# EAGLE library part KEMET_EC2-3NU (library Kemet - EC2-3NU)
Miniature Signal Relay
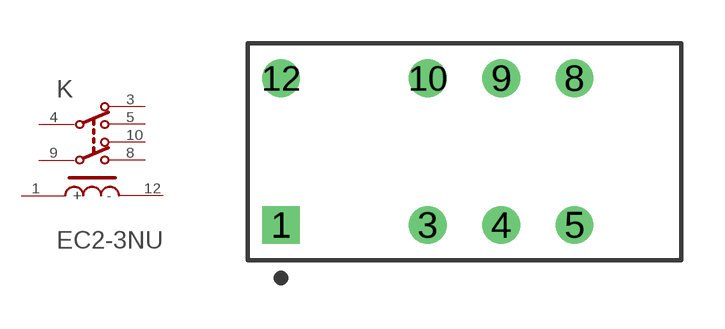
[diagram p0: symbol with the pads of KEMET_EC2-3NU_0; footprint KEMET_EC2-3NU_0]

Designator prefix K

## KEMET_EC2-3NUKEMET_EC2-3NU_0_0 (CENTROID_NOT_SPECIFIED: No; COIL_CURRENT: 28mA; COIL_VOLTAGE: 5VDC; CONTACT_FORM: DPDT (2 Form C); DATASHEET: http://www.kemet.com/docfinder?Partnumber=EC2-5NU; DIGIKEY_DESCRIPTION: RELAY GEN PURPOSE DPDT 2A 5V; DIGIKEY_PART_NUMBER: 399-11052-5-ND; IMPORTED_FROM: octopart; LEAD_FREE: yes; MF: Kemet; MOUSER_PART_NUMBER: 80-EC2-5NU; MPN: EC2-5NU; PACKAGE: RLY_PTH_14MM8_7MM3; PREFIX: K; ROHS: yes; TEMPERATURE_RANGE_HIGH: +85°C; TEMPERATURE_RANGE_LOW: -40°C; VOLTAGE: 250VAC)  [KEMET_EC2-3NU_0]
1  +
3  3
4  4
5  5
8  8
9  9
10  10
12  -

## Footprint KEMET_EC2-3NU_0 (pad centres in mm)
Miniature Signal Relay
drill 0.8 pad 1.3 square: 1 -6.35,-2.54
drill 0.8 pad 1.3: 3 -1.27,-2.54; 4 1.27,-2.54; 5 3.81,-2.54; 8 3.81,2.54; 9 1.27,2.54; 10 -1.27,2.54; 12 -6.35,2.54